# Altium footprint library Linux_Base.PcbLib: 16 footprints
Each footprint in its own frame and in the unit in brackets; x right, y up, seen from the top. Pads: shape width x height; smd on the part's side, far side on the other; paste and mask are expansions set on the pad; w line width, h text height; cw(c..) or ccw(c..) is an arc to the next point about the centre after c.
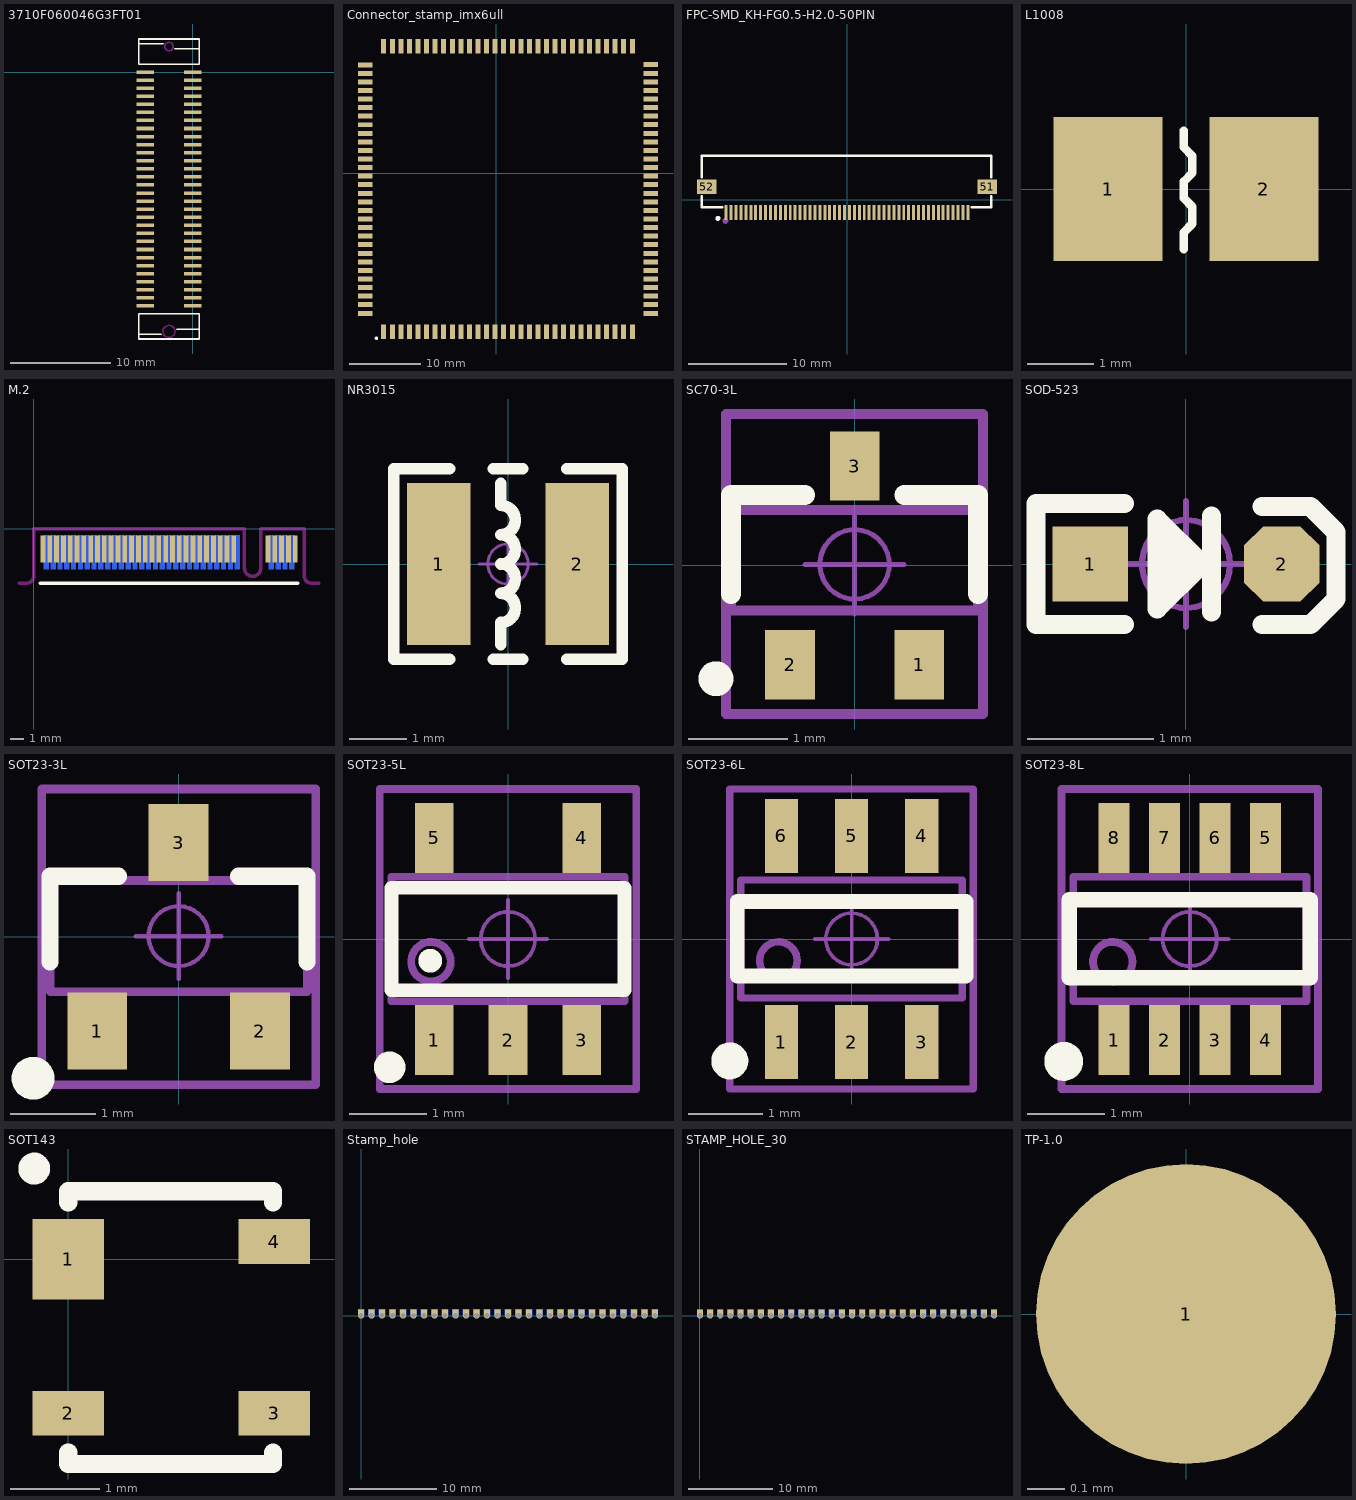
[diagram p0: the footprints below, top view; thin cyan lines are the x and y axes]

## 3710F060046G3FT01 [mm]
pads (60):
  rect 1.7x0.35 smd: 1(-4.7,0) 2(-4.7,-0.8) 3(-4.7,-1.6) 4(-4.7,-2.4) 5(-4.7,-3.2) 6(-4.7,-4) 7(-4.7,-4.8) 8(-4.7,-5.6) 9(-4.7,-6.4) 10(-4.7,-7.2) 11(-4.7,-8) 12(-4.7,-8.8) 13(-4.7,-9.6) 14(-4.7,-10.4) 15(-4.7,-11.2) 16(-4.7,-12) 17(-4.7,-12.8) 18(-4.7,-13.6) 19(-4.7,-14.4) 20(-4.7,-15.2) 21(-4.7,-16) 22(-4.7,-16.8) 23(-4.7,-17.6) 24(-4.7,-18.4) 25(-4.7,-19.2) 26(-4.7,-20) 27(-4.7,-20.8) 28(-4.7,-21.6) 29(-4.7,-22.4) 30(-4.7,-23.2) 31(0,-23.2) 32(0,-22.4) 33(0,-21.6) 34(0,-20.8) 35(0,-20) 36(0,-19.2) 37(0,-18.4) 38(0,-17.6) 39(0,-16.8) 40(0,-16) 41(0,-15.2) 42(0,-14.4) 43(0,-13.6) 44(0,-12.8) 45(0,-12) 46(0,-11.2) 47(0,-10.4) 48(0,-9.6) 49(0,-8.8) 50(0,-8) 51(0,-7.2) 52(0,-6.4) 53(0,-5.6) 54(0,-4.8) 55(0,-4) 56(0,-3.2) 57(0,-2.4) 58(0,-1.6) 59(0,-0.8) 60(0,0)
Top Overlay:
  lines w0.152: -5.35,-26 -3.1,-26 ; -5.35,2.8 -2.9,2.8 ; -1.8,2.3 0.65,2.3 ; -1.6,-25.5 0.65,-25.5 ; 0.625,0.775 -5.35,0.775 -5.35,3.275 0.65,3.275 0.65,0.775 ; -5.35,-26.475 0.65,-26.475 0.65,-23.975 -5.35,-23.975 -5.35,-26.475
Keep-Out Layer:
  circle w0.127: c-2.35,-25.725 r0.6
  circle w0.127: c-2.35,2.525 r0.42

## Connector_stamp_imx6ull [mm]
pads (120):
  rect 0.7x2 smd: J1_1(-15.755,-22.227) J1_2(-14.555,-22.227) J1_3(-13.355,-22.227) J1_4(-12.155,-22.227) J1_5(-10.955,-22.227) J1_6(-9.755,-22.227) J1_7(-8.555,-22.227) J1_8(-7.355,-22.227) J1_9(-6.155,-22.227) J1_10(-4.955,-22.227) J1_11(-3.755,-22.227) J1_12(-2.555,-22.227) J1_13(-1.355,-22.227) J1_14(-0.155,-22.227) J1_15(1.045,-22.227) J1_16(2.245,-22.227) J1_17(3.445,-22.227) J1_18(4.645,-22.227) J1_19(5.845,-22.227) J1_20(7.045,-22.227) J1_21(8.245,-22.227) J1_22(9.445,-22.227) J1_23(10.645,-22.227) J1_24(11.845,-22.227) J1_25(13.045,-22.227) J1_26(14.245,-22.227) J1_27(15.445,-22.227) J1_28(16.645,-22.227) J1_29(17.845,-22.227) J1_30(19.045,-22.227) J3_1(19.045,17.777) J3_2(17.845,17.777) J3_3(16.645,17.777) J3_4(15.445,17.777) J3_5(14.245,17.777) J3_6(13.045,17.777) J3_7(11.845,17.777) J3_8(10.645,17.777) J3_9(9.445,17.777) J3_10(8.245,17.777) J3_11(7.045,17.777) J3_12(5.845,17.777) J3_13(4.645,17.777) J3_14(3.445,17.777) J3_15(2.245,17.777) J3_16(1.045,17.777) J3_17(-0.155,17.777) J3_18(-1.355,17.777) J3_19(-2.555,17.777) J3_20(-3.755,17.777) J3_21(-4.955,17.777) J3_22(-6.155,17.777) J3_23(-7.355,17.777) J3_24(-8.555,17.777) J3_25(-9.755,17.777) J3_26(-10.955,17.777) J3_27(-12.155,17.777) J3_28(-13.355,17.777) J3_29(-14.555,17.777) J3_30(-15.755,17.777)
  rect 2x0.7 smd: J2_1(21.642,-19.627) J2_2(21.642,-18.427) J2_3(21.642,-17.227) J2_4(21.642,-16.027) J2_5(21.642,-14.827) J2_6(21.642,-13.627) J2_7(21.642,-12.427) J2_8(21.642,-11.227) J2_9(21.642,-10.027) J2_10(21.642,-8.827) J2_11(21.642,-7.627) J2_12(21.642,-6.427) J2_13(21.642,-5.227) J2_14(21.642,-4.027) J2_15(21.642,-2.827) J2_16(21.642,-1.627) J2_17(21.642,-0.427) J2_18(21.642,0.773) J2_19(21.642,1.973) J2_20(21.642,3.173) J2_21(21.642,4.373) J2_22(21.642,5.573) J2_23(21.642,6.773) J2_24(21.642,7.973) J2_25(21.642,9.173) J2_26(21.642,10.373) J2_27(21.642,11.573) J2_28(21.642,12.773) J2_29(21.642,13.973) J2_30(21.642,15.173) J4_1(-18.351,15.169) J4_2(-18.351,13.969) J4_3(-18.351,12.769) J4_4(-18.351,11.569) J4_5(-18.351,10.369) J4_6(-18.351,9.169) J4_7(-18.351,7.969) J4_8(-18.351,6.769) J4_9(-18.351,5.569) J4_10(-18.351,4.369) J4_11(-18.351,3.169) J4_12(-18.351,1.969) J4_13(-18.351,0.769) J4_14(-18.351,-0.431) J4_15(-18.351,-1.631) J4_16(-18.351,-2.831) J4_17(-18.351,-4.031) J4_18(-18.351,-5.231) J4_19(-18.351,-6.431) J4_20(-18.351,-7.631) J4_21(-18.351,-8.831) J4_22(-18.351,-10.031) J4_23(-18.351,-11.231) J4_24(-18.351,-12.431) J4_25(-18.351,-13.631) J4_26(-18.351,-14.831) J4_27(-18.351,-16.031) J4_28(-18.351,-17.231) J4_29(-18.351,-18.431) J4_30(-18.351,-19.631)
Top Overlay:
  circle w0.254: c-16.777,-23.114 r0.117

## FPC-SMD_KH-FG0.5-H2.0-50PIN [mm]
pads (52):
  rect 0.3x1.5 smd: 1(-12.25,-1.3) 2(-11.75,-1.3) 3(-11.25,-1.3) 4(-10.75,-1.3) 5(-10.25,-1.3) 6(-9.75,-1.3) 7(-9.25,-1.3) 8(-8.75,-1.3) 9(-8.25,-1.3) 10(-7.75,-1.3) 11(-7.25,-1.3) 12(-6.75,-1.3) 13(-6.25,-1.3) 14(-5.75,-1.3) 15(-5.25,-1.3) 16(-4.75,-1.3) 17(-4.25,-1.3) 18(-3.75,-1.3) 19(-3.25,-1.3) 20(-2.75,-1.3) 21(-2.25,-1.3) 22(-1.75,-1.3) 23(-1.25,-1.3) 24(-0.75,-1.3) 25(-0.25,-1.3) 26(0.25,-1.3) 27(0.75,-1.3) 28(1.25,-1.3) 29(1.75,-1.3) 30(2.25,-1.3) 31(2.75,-1.3) 32(3.25,-1.3) 33(3.75,-1.3) 34(4.25,-1.3) 35(4.75,-1.3) 36(5.25,-1.3) 37(5.75,-1.3) 38(6.25,-1.3) 39(6.75,-1.3) 40(7.25,-1.3) 41(7.75,-1.3) 42(8.25,-1.3) 43(8.75,-1.3) 44(9.25,-1.3) 45(9.75,-1.3) 46(10.25,-1.3) 47(10.75,-1.3) 48(11.25,-1.3) 49(11.75,-1.3) 50(12.25,-1.3)
  rect 2x1.5 smd: 51(14.2,1.3) 52(-14.2,1.3)
Top Overlay:
  circle w0.254: c-13.081,-1.905 r0.127
  lines w0.254: -14.732,0.319 -14.732,-0.762 -12.631,-0.762 ; -14.732,2.281 -14.732,4.445 -14.605,4.445 14.605,4.445 14.605,2.281 ; 12.631,-0.762 14.605,-0.762 14.605,0.319
Mechanical 15:
  circle w0.3: c-12.319,-2.159 r0.15
3D body "70236842.stp": height 2.08, standoff 0.02, extent -15.247,-1.22 15.253,4.42

## L1008 [mm]
pads (2):
  rect 1.635x2.16 smd: 1(-1.168,0) 2(1.167,0)
Top Overlay:
  lines w0.127: -0.033,-0.902 -0.033,-0.648 0.094,-0.521 0.094,-0.267 -0.033,-0.14 -0.033,0.114 0.094,0.241 0.094,0.495 -0.033,0.622 -0.033,0.876
Top Paste:
  region: -0.315,-0.98 -0.315,-0.467 -0.415,-0.367 -0.806,-0.367 -0.906,-0.267 -0.906,0.267 -0.806,0.367 -0.415,0.367 -0.315,0.467 -0.315,0.98 -0.415,1.08 -1.885,1.08 -1.985,0.98 -1.985,-0.98 -1.885,-1.08 -0.415,-1.08
  region: 0.315,-0.98 0.315,-0.467 0.415,-0.367 0.806,-0.367 0.906,-0.267 0.906,0.267 0.806,0.367 0.415,0.367 0.315,0.467 0.315,0.98 0.415,1.08 1.885,1.08 1.985,0.98 1.985,-0.98 1.885,-1.08 0.415,-1.08

## M.2 [mm]
pads (67):
  rect 0.35x2 smd: 1(0.68,-1.5) 3(1.18,-1.5) 5(1.68,-1.5) 7(2.18,-1.5) 9(2.68,-1.5) 11(3.18,-1.5) 13(3.68,-1.5) 15(4.18,-1.5) 17(4.68,-1.5) 19(5.18,-1.5) 21(5.68,-1.5) 23(6.18,-1.5) 25(6.68,-1.5) 27(7.18,-1.5) 29(7.68,-1.5) 31(8.18,-1.5) 33(8.68,-1.5) 35(9.18,-1.5) 37(9.68,-1.5) 39(10.18,-1.5) 41(10.68,-1.5) 43(11.18,-1.5) 45(11.68,-1.5) 47(12.18,-1.5) 49(12.68,-1.5) 51(13.18,-1.5) 53(13.68,-1.5) 55(14.18,-1.5) 57(14.68,-1.5) 67(17.18,-1.5) 69(17.68,-1.5) 71(18.18,-1.5) 73(18.68,-1.5) 75(19.18,-1.5)
  rect 0.35x2.5 smd far side: 2(0.93,-1.75) 4(1.43,-1.75) 6(1.93,-1.75) 8(2.43,-1.75) 10(2.93,-1.75) 12(3.43,-1.75) 14(3.93,-1.75) 16(4.43,-1.75) 18(4.93,-1.75) 20(5.43,-1.75) 22(5.93,-1.75) 24(6.43,-1.75) 26(6.93,-1.75) 28(7.43,-1.75) 30(7.93,-1.75) 32(8.43,-1.75) 34(8.93,-1.75) 36(9.43,-1.75) 38(9.93,-1.75) 40(10.43,-1.75) 42(10.93,-1.75) 44(11.43,-1.75) 46(11.93,-1.75) 48(12.43,-1.75) 50(12.93,-1.75) 52(13.43,-1.75) 54(13.93,-1.75) 56(14.43,-1.75) 58(14.93,-1.75) 68(17.43,-1.75) 70(17.93,-1.75) 72(18.43,-1.75) 74(18.93,-1.75)
Top Overlay:
  lines w0.254: 0.5,-4 19.35,-4
Bottom Overlay:
  lines w0.254: 0.5,-5.2 19.35,-5.2
Keep-Out Layer:
  lines w0.254: -1.075,-4 -0.5,-4 ccw(c-0.5,-3.5) 0,-3.5 0,0 15.455,0 15.455,-2.9 ccw(c16.055,-2.9) 16.655,-2.9 16.655,0 19.85,0 19.85,-3.5 ccw(c20.35,-3.5) 20.35,-4 20.925,-4

## NR3015 [mm]
pads (2):
  rect 1.1x2.8 smd: 1(-1.2,0) 2(1.2,0)
Top Overlay:
  lines w0.203: -1.016,-1.651 -1.981,-1.651 -1.981,1.651 -1.016,1.651 ; -0.254,-1.651 0.254,-1.651 ; -0.254,1.651 0.254,1.651 ; -0.127,-1.397 -0.127,-1.016 ccw(c-0.127,-0.762) -0.127,-0.508 ccw(c-0.127,-0.254) -0.127,0 ccw(c-0.127,0.254) -0.127,0.508 ccw(c-0.127,0.762) -0.127,1.016 -0.127,1.397 ; 1.016,-1.651 1.981,-1.651 1.981,1.651 1.016,1.651
Mechanical 15:
  circle w0.05: c0,0 r0.35
  lines w0.05: -0.5,0 0.5,0 ; 0,-0.5 0,0.5
3D body "NR3015.STEP": height 1.45, standoff 0.05, extent -1.5,-1.5 1.5,1.5

## SC70-3L [mm]
pads (3):
  rect 0.5x0.7 smd: 1(0.65,-1) 2(-0.65,-1) 3(0,1)
Top Overlay:
  circle w0.25: c-1.397,-1.143 r0.051
  lines w0.2: -1.245,-0.291 -1.245,0.709 -0.5,0.709 ; 0.5,0.709 1.245,0.709 1.245,-0.291
Mechanical 13:
  lines w0.1: -1.245,-0.457 -1.245,0.559 1.245,0.559 1.245,-0.457 -1.245,-0.457
Mechanical 15:
  circle w0.05: c0,0.009 r0.35
  lines w0.05: -0.5,0.009 0.5,0.009 ; 0,-0.491 0,0.509
  lines w0.1: -1.295,-1.499 -1.295,1.524 1.295,1.524 1.295,-1.499 -1.295,-1.499
3D body "User Library-SOT323 (SC70-3)-1.STEP": height 1.1, standoff 0, extent -1.092,-1.148 1.108,1.097

## SOD-523 [mm]
pads (2):
  rect 0.6x0.6 smd: 1(-0.762,0)
  oct 0.6x0.6 smd: 2(0.762,0)
Top Overlay:
  rectangle: -0.178,-0.178 0,0.178
  lines w0.152: -0.488,-0.483 -1.194,-0.483 -1.194,0.483 -0.488,0.483 ; -0.127,0 0.127,0 ; 0.203,-0.381 0.203,0.381 ; 0.604,-0.483 0.991,-0.483 1.194,-0.279 1.194,0.254 0.991,0.457 0.604,0.457 ; 0.127,0 -0.229,0.356 -0.229,-0.356 0.127,0
Mechanical 15:
  circle w0.05: c0,0 r0.35
  lines w0.05: -0.5,0 0.5,0 ; 0,-0.5 0,0.5
3D body "SOD-523.STEP": height 0.65, standoff 0.05, extent -0.8,-0.4 0.8,0.4

## SOT23-3L [mm]
pads (3):
  rect 0.7x0.9 smd: 1(-0.95,-1.1) 2(0.95,-1.1) 3(0,1.1)
Top Overlay:
  circle w0.25: c-1.7,-1.651 r0.125
  lines w0.2: -1.5,-0.291 -1.5,0.709 -0.7,0.709 ; 0.7,0.709 1.5,0.709 1.5,-0.291
Mechanical 13:
  lines w0.1: -1.5,-0.641 -1.5,0.659 1.5,0.659 1.5,-0.641 -1.5,-0.641
Mechanical 15:
  circle w0.05: c0,0.009 r0.35
  lines w0.05: -0.5,0.009 0.5,0.009 ; 0,-0.491 0,0.509
  lines w0.1: -1.6,-1.727 -1.6,1.727 1.6,1.727 1.6,-1.727 -1.6,-1.727
3D body "SOT23-3.STEP": height 1.05, standoff 0, extent -1.5,-1.191 1.5,1.209

## SOT23-5L [mm]
pads (5):
  rect 0.5x0.9 smd: 1(-0.95,-1.3) 2(0,-1.3) 3(0.95,-1.3) 4(0.95,1.3) 5(-0.95,1.3)
Top Overlay:
  circle w0.254: c-1.524,-1.651 r0.076
  circle w0.254: c-1.001,-0.279 r0.025
  lines w0.178: -1.5,-0.66 -1.5,0.66 1.5,0.66 1.5,-0.66 -1.5,-0.66
Mechanical 13:
  circle w0.1: c-0.992,-0.292 r0.254
  lines w0.1: -1.5,-0.8 1.5,-0.8 1.5,0.8 -1.5,0.8 -1.5,-0.8
Mechanical 15:
  circle w0.05: c0,0 r0.35
  lines w0.05: -0.5,0 0.5,0 ; 0,-0.5 0,0.5
  lines w0.1: -1.651,-1.93 1.651,-1.93 1.651,1.93 -1.651,1.93 -1.651,-1.93
3D body "SOT23-5.STEP": height 1.15, standoff -0.03, extent -1.5,-1.403 1.5,1.403

## SOT23-6L [mm] "3x1.6x1.1mm(长宽高)"
height 1.45
pads (6):
  rect 0.45x1 smd: 1(-0.95,-1.397) 2(0,-1.397) 3(0.95,-1.397) 4(0.95,1.397) 5(0,1.397) 6(-0.95,1.397)
Top Overlay:
  circle w0.25: c-1.65,-1.651 r0.125
  lines w0.2: -1.55,-0.5 1.55,-0.5 1.55,0.508 -1.55,0.508 -1.55,-0.5
Mechanical 13:
  circle w0.1: c-0.992,-0.292 r0.254
  lines w0.1: -1.5,-0.8 -1.5,0.8 1.5,0.8 1.5,-0.8 -1.5,-0.8
Mechanical 15:
  circle w0.05: c0,0 r0.35
  lines w0.05: -0.5,0 0.5,0 ; 0,-0.5 0,0.5
  lines w0.1: -1.65,-2.032 -1.65,2.032 1.65,2.032 1.65,-2.032 -1.65,-2.032
3D body "SOT23-6.STEP": height 1.15, standoff -0.03, extent -1.5,-1.404 1.5,1.403

## SOT23-8L [mm]
pads (8):
  rect 0.4x0.9 smd: 1(-0.975,-1.3) 2(-0.325,-1.3) 3(0.325,-1.3) 4(0.975,-1.3) 5(0.975,1.3) 6(0.325,1.3) 7(-0.325,1.3) 8(-0.975,1.3)
Top Overlay:
  circle w0.25: c-1.624,-1.575 r0.125
  lines w0.2: -1.55,-0.5 1.55,-0.5 1.55,0.508 -1.55,0.508 -1.55,-0.5
Mechanical 13:
  circle w0.1: c-0.992,-0.292 r0.254
  lines w0.1: -1.5,-0.8 -1.5,0.8 1.5,0.8 1.5,-0.8 -1.5,-0.8
Mechanical 15:
  circle w0.05: c0,0 r0.35
  lines w0.05: -0.5,0 0.5,0 ; 0,-0.5 0,0.5
  lines w0.1: -1.65,-1.93 -1.65,1.93 1.65,1.93 1.65,-1.93 -1.65,-1.93
3D body "SOT23-8.STEP": height 1.15, standoff 0, extent -1.5,-1.403 1.5,1.403

## SOT143 [mm]
pads (4):
  rect 0.8x0.9 smd: 1(0,0)
  rect 0.8x0.5 smd: 2(0,-1.72) 3(2.3,-1.72) 4(2.3,0.2)
Top Overlay:
  circle w0.254: c-0.381,1.016 r0.051
  lines w0.203: 0,-2.159 0,-2.286 2.286,-2.286 2.286,-2.159 ; 0,0.635 0,0.762 2.286,0.762 2.286,0.635
3D body: height 0.8, standoff 0, extent 0.209,-2.27 2.017,0.76
3D body: height 0.2, standoff 0, extent 1.553,0.026 2.604,0.372
3D body: height 0.2, standoff 0, extent 1.592,-1.92 2.643,-1.574
3D body: height 0.2, standoff 0, extent -0.328,-0.359 0.732,0.381
3D body: height 0.2, standoff 0, extent -0.319,-1.902 0.732,-1.556

## Stamp_hole [mm]
pads (87):
  round 0.7 hole 0.6: 1(0,0) 2(1.2,0) 3(2.4,0) 4(3.6,0) 5(4.8,0) 6(6,0) 7(7.2,0) 8(8.4,0) 9(9.6,0) 10(10.8,0) 11(12,0) 12(13.2,0) 13(14.4,0) 14(15.6,0) 15(16.8,0) 16(18,0) 17(19.2,0) 18(20.4,0) 19(21.6,0) 20(22.8,0) 21(24,0) 22(25.2,0) 23(26.4,0) 24(27.6,0) 25(28.8,0) 26(30,0) 27(31.2,0) 28(32.4,0) 29(33.6,0)
  rect 0.7x0.7 smd: 1(0,0.356) 2(1.2,0.356) 3(2.4,0.356) 4(3.6,0.356) 5(4.8,0.356) 6(6,0.356) 7(7.2,0.356) 8(8.4,0.356) 9(9.6,0.356) 10(10.8,0.356) 11(12,0.356) 12(13.2,0.356) 13(14.4,0.356) 14(15.6,0.356) 15(16.8,0.356) 16(18,0.356) 17(19.2,0.356) 18(20.4,0.356) 19(21.6,0.356) 20(22.8,0.356) 21(24,0.356) 22(25.2,0.356) 23(26.4,0.356) 24(27.6,0.356) 25(28.8,0.356) 26(30,0.356) 27(31.2,0.356) 28(32.4,0.356) 29(33.6,0.356)
  rect 0.7x0.7 smd far side: 1(0,0.356) 2(1.2,0.356) 3(2.4,0.356) 4(3.6,0.356) 5(4.8,0.356) 6(6,0.356) 7(7.2,0.356) 8(8.4,0.356) 9(9.6,0.356) 10(10.8,0.356) 11(12,0.356) 12(13.2,0.356) 13(14.4,0.356) 14(15.6,0.356) 15(16.8,0.356) 16(18,0.356) 17(19.2,0.356) 18(20.4,0.356) 19(21.6,0.356) 20(22.8,0.356) 21(24,0.356) 22(25.2,0.356) 23(26.4,0.356) 24(27.6,0.356) 25(28.8,0.356) 26(30,0.356) 27(31.2,0.356) 28(32.4,0.356) 29(33.6,0.356)

## STAMP_HOLE_30 [mm]
pads (90):
  round 0.7 hole 0.6: 1(0,0) 2(1.2,0) 3(2.4,0) 4(3.6,0) 5(4.8,0) 6(6,0) 7(7.2,0) 8(8.4,0) 9(9.6,0) 10(10.8,0) 11(12,0) 12(13.2,0) 13(14.4,0) 14(15.6,0) 15(16.8,0) 16(18,0) 17(19.2,0) 18(20.4,0) 19(21.6,0) 20(22.8,0) 21(24,0) 22(25.2,0) 23(26.4,0) 24(27.6,0) 25(28.8,0) 26(30,0) 27(31.2,0) 28(32.4,0) 29(33.6,0) 30(34.8,0)
  rect 0.7x0.7 smd far side: 1(0,0.356) 2(1.2,0.356) 3(2.4,0.356) 4(3.6,0.356) 5(4.8,0.356) 6(6,0.356) 7(7.2,0.356) 8(8.4,0.356) 9(9.6,0.356) 10(10.8,0.356) 11(12,0.356) 12(13.2,0.356) 13(14.4,0.356) 14(15.6,0.356) 15(16.8,0.356) 16(18,0.356) 17(19.2,0.356) 18(20.4,0.356) 19(21.6,0.356) 20(22.8,0.356) 21(24,0.356) 22(25.2,0.356) 23(26.4,0.356) 24(27.6,0.356) 25(28.8,0.356) 26(30,0.356) 27(31.2,0.356) 28(32.4,0.356) 29(33.6,0.356) 30(34.8,0.356)
  rect 0.7x0.7 smd: 1(0,0.356) 2(1.2,0.356) 3(2.4,0.356) 4(3.6,0.356) 5(4.8,0.356) 6(6,0.356) 7(7.2,0.356) 8(8.4,0.356) 9(9.6,0.356) 10(10.8,0.356) 11(12,0.356) 12(13.2,0.356) 13(14.4,0.356) 14(15.6,0.356) 15(16.8,0.356) 16(18,0.356) 17(19.2,0.356) 18(20.4,0.356) 19(21.6,0.356) 20(22.8,0.356) 21(24,0.356) 22(25.2,0.356) 23(26.4,0.356) 24(27.6,0.356) 25(28.8,0.356) 26(30,0.356) 27(31.2,0.356) 28(32.4,0.356) 29(33.6,0.356) 30(34.8,0.356)

## TP-1.0 [mm]
pads (1):
  round 0.8 smd: 1(0,0)